# EAGLE library part 7-SEG-AC_1_ (library !7seg)
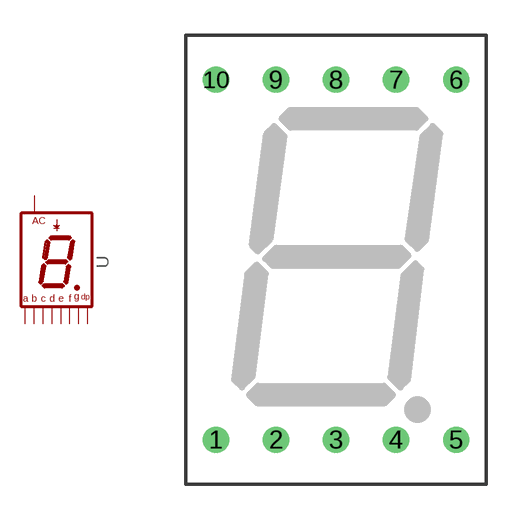
[diagram p3: symbol with the pads of 551SRD; footprint 551SRD]

Designator prefix -

## 7-SEG-AC_1_  [551SRD]
1  E
2  D
3  AC  pas
4  C
5  DP
6  B
7  A
8  AC  pas
9  F
10  G

## Footprint 551SRD (pad centres in mm)
drill 0.6: 1 -5.08,-7.62; 2 -2.54,-7.62; 3 0,-7.62; 4 2.54,-7.62; 5 5.08,-7.62; 6 5.08,7.62; 7 2.54,7.62; 8 0,7.62; 9 -2.54,7.62; 10 -5.08,7.62